# EAGLE library part MAX98357A (library esbd-chips)
MAX98357A Maxim Integrated Tiny, Low-Cost, PCM Class D Amplifier with Class AB Performance
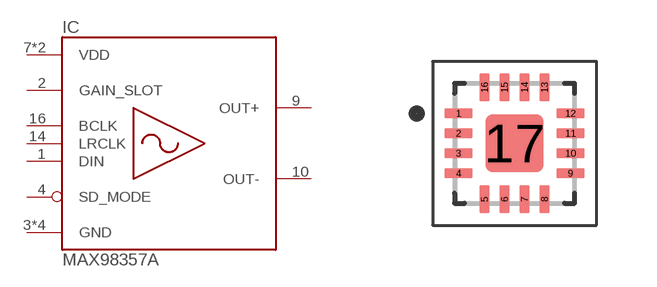
[diagram p8: symbol with the pads of QFN16_3.00X3.00MM; footprint QFN16_3.00X3.00MM]

Designator prefix IC

## MAX98357A*TE  [QFN16_3.00X3.00MM]
1  DIN  in
2  GAIN_SLOT  in
3  GND  pwr
4  SD_MODE  in
7  VDD  pwr
8  VDD  pwr
9  OUT+  out
10  OUT-  out
11  GND  pwr
14  LRCLK  in
15  GND  pwr
16  BCLK  in
17  GND  pwr

## Footprint QFN16_3.00X3.00MM (pad centres in mm)
https://www.analog.com/media/en/package-pcb-resources/package/pkg_pdf/ltc-legacy-qfn/05081782_0_UD16-BB.pdf
smd 0.7 x 0.25: 1 -1.4,0.75; 2 -1.4,0.25; 3 -1.4,-0.25; 4 -1.4,-0.75; 9 1.4,-0.75; 10 1.4,-0.25; 11 1.4,0.25; 12 1.4,0.75
smd 0.25 x 0.7: 5 -0.75,-1.4; 6 -0.25,-1.4; 7 0.25,-1.4; 8 0.75,-1.4; 13 0.75,1.4; 14 0.25,1.4; 15 -0.25,1.4; 16 -0.75,1.4
smd 1.45 x 1.45: 17 0,0